# Altium schematic symbol library FA-20H 40.0000MF10Z-K3.SchLib: 1 symbol
Pins are listed as number, name and electrical type; pins without a type are passive.

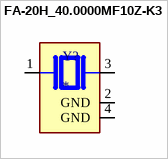
[diagram p0: symbol FA-20H_40.0000MF10Z-K3]

## FA-20H_40.0000MF10Z-K3
designator Y?
MF: {'manufacturer': u'EPSON'}; MP: FA-20H 40.0000MF10Z-K3; Package: None; Price: None; Value: *; Availability: Unavailable
footprint XTAL_FA-20H_40.0000MF10Z-K3
pins: 1, 2 GND (power), 3 2, 4 GND (power)